# EAGLE library part HEADER-2X5P (library Deegou_Connector)
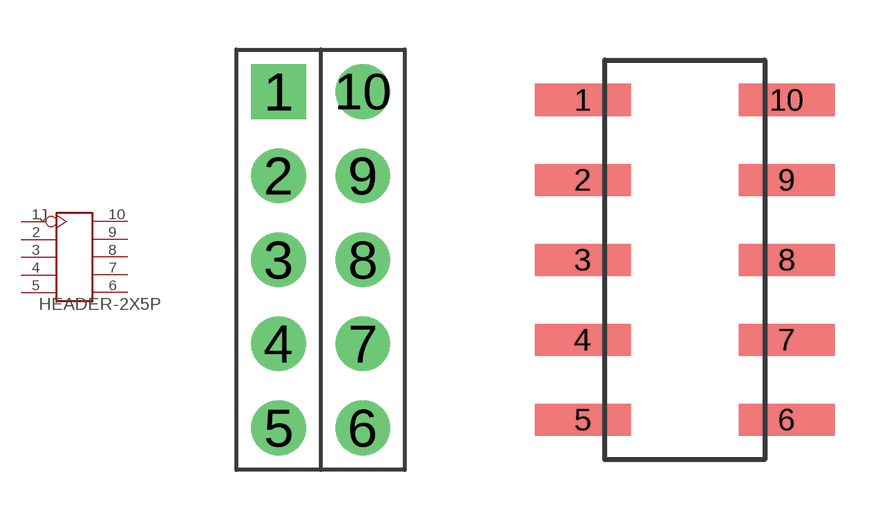
[diagram p9: symbol with the pads of 2X5P-2.54; footprints 2X5P-2.54, 2X5P-2.0-SMD]

Designator prefix J

## HEADER-2X5P-2.54  [2X5P-2.54]
1  1
2  2
3  3
4  4
5  5
6  6
7  7
8  8
9  9
10  10

## HEADER-2X5P-2.0  [2X5P-2.0-SMD]
Pads as for 2X5P-2.54

## HEADER-2X5P-1.27  [2X5P-1.27-SMD]
Pads as for 2X5P-2.54

## HEADER-2X5P-1.27_THT  [2X5P-1.27-THT]
P$1  1
P$2  2
P$3  3
P$4  4
P$5  5
P$6  6
P$7  7
P$8  8
P$9  9
P$10  10

## Footprint 2X5P-2.54 (pad centres in mm)
drill 0.889 pad 1.651 square: 1 -1.27,5.08
drill 0.889 pad 1.651: 2 -1.27,2.54; 3 -1.27,0; 4 -1.27,-2.54; 5 -1.27,-5.08; 6 1.27,-5.08; 7 1.27,-2.54; 8 1.27,0; 9 1.27,2.54; 10 1.27,5.08

## Footprint 2X5P-2.0-SMD (pad centres in mm)
smd 2.4 x 0.8: 1 -2.55,4; 2 -2.55,2; 3 -2.55,0; 4 -2.55,-2; 5 -2.55,-4; 6 2.55,-4; 7 2.55,-2; 8 2.55,0; 9 2.55,2; 10 2.55,4

## Footprint 2X5P-1.27-SMD (pad centres in mm)
smd 2.4 x 0.8: 1 0,0; 2 0,-1.27; 3 0,-2.54; 4 0,-3.81; 5 0,-5.08; 6 3.43,-5.08; 7 3.43,-3.81; 8 3.43,-2.54; 9 3.43,-1.27; 10 3.43,0

## Footprint 2X5P-1.27-THT (pad centres in mm)
drill 0.55: P$1 -2.54,-0.635; P$2 -1.27,-0.635; P$3 0,-0.635; P$4 1.27,-0.635; P$5 2.54,-0.635; P$6 2.54,0.635; P$7 1.27,0.635; P$8 0,0.635; P$9 -1.27,0.635; P$10 -2.54,0.635